# Altium integrated library FF450R12ME4.IntLib: 1 symbol
Pins are listed as number, name and electrical type; pins without a type are passive.

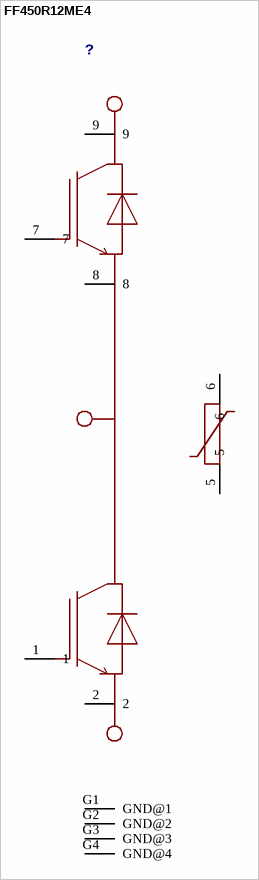
[diagram p0: symbol FF450R12ME4]

## FF450R12ME4
designator ?
GateName_1: G$1; SymbolName_1: FF450R12ME4; LibraryName: FF450R12ME4; DeviceSetName: FF450R12ME4; Package: FF450R12ME4
footprint FF450R12ME4
pins: 1, 2, 5, 6, 7, 8, 9, G1 GND@1, G2 GND@2, G3 GND@3, G4 GND@4